# EAGLE library part MCP6C02 (library Microchip)
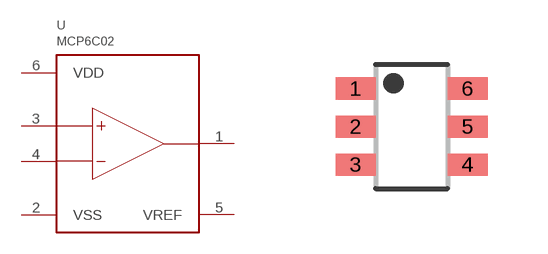
[diagram p48: symbol with the pads of SOT23-6; footprint SOT23-6]

Designator prefix U

## MCP6C02-020, MCP6C02-050, MCP6C02-100  [SOT23-6]
1  VOUT
2  VSS
3  VIP
4  VIM
5  VREF
6  VDD

## Footprint SOT23-6 (pad centres in mm)
smd 1 x 0.55: 1 -1.4,0.95; 2 -1.4,0; 3 -1.4,-0.95; 4 1.4,-0.95; 5 1.4,0; 6 1.4,0.95